# Altium schematic symbol library SCH - POWER - SWITCHMODE - TI LM5148.SchLib: 1 symbol
Pins are listed as number, name and electrical type; pins without a type are passive.

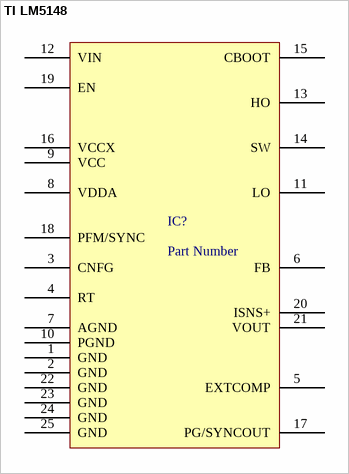
[diagram p0: symbol TI LM5148]

## TI LM5148
designator IC?, comment Part Number
80-V, Synchronous, Buck DC/DC Controller with Ultra-Low IQ and Dual Random Spread Spectrum
pins: 1 GND, 2 GND, 3 CNFG, 4 RT, 5 EXTCOMP, 6 FB, 7 AGND, 8 VDDA, 9 VCC, 10 PGND, 11 LO, 12 VIN, 13 HO, 14 SW, 15 CBOOT, 16 VCCX, 17 PG/SYNCOUT, 18 PFM/SYNC, 19 EN, 20 ISNS+, 21 VOUT, 22 GND, 23 GND, 24 GND, 25 GND